# Altium footprint library Connector.PcbLib: 23 footprints (part 2 of 2)
Each footprint in its own frame and in the unit in brackets; x right, y up, seen from the top. Pads: shape width x height; smd on the part's side, far side on the other; paste and mask are expansions set on the pad; w line width, h text height; cw(c..) or ccw(c..) is an arc to the next point about the centre after c.
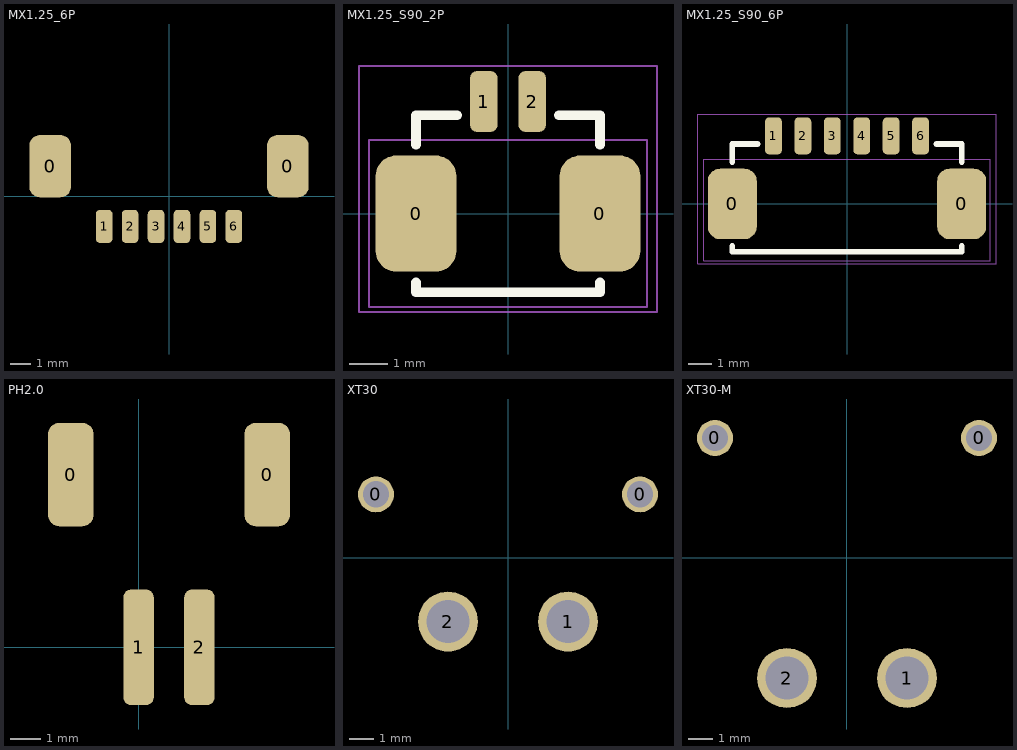
[diagram p1: the footprints below, top view; thin cyan lines are the x and y axes]

## MX1.25_6P [mm]
pads (8):
  rrect50% 2x3 smd: 0(-5.725,1.45) 0(5.725,1.45)
  rrect50% 0.8x1.6 smd: 1(-3.125,-1.45) 2(-1.875,-1.45) 3(-0.625,-1.45) 4(0.625,-1.45) 5(1.875,-1.45) 6(3.125,-1.45)

## MX1.25_S90_2P [mil]
pads (4):
  rrect50% 82x118 smd: 0(-93.58,0) 0(93.58,0)
  rrect50% 28x62 smd: 1(-24.61,114) 2(24.61,114)
Top Overlay:
  lines w10: -93.58,-70 -93.58,-80 93.58,-80 93.58,-70 ; -93.58,70 -93.58,100 -51.58,100 ; 51.58,100 93.58,100 93.58,70
Mechanical 13:
  lines w2: -141.58,-95 141.58,-95 141.58,75 -141.58,75 -141.58,-95
T-Component:
  lines w2: -151.58,-100 151.58,-100 151.58,150 -151.58,150 -151.58,-100
  text ".Designator" at -90,-25 h100
3D body "47641.stp": height 98.43, standoff -23.62, extent -146.65,-128.78 146.65,135

## MX1.25_S90_6P [mil]
pads (8):
  rrect50% 82x118 smd: 0(-192,0) 0(192,0)
  rrect50% 28x62 smd: 1(-123.03,114) 2(-73.82,114) 3(-24.61,114) 4(24.61,114) 5(73.82,114) 6(123.03,114)
Top Overlay:
  lines w10: -192,-70 -192,-80 192,-80 192,-70 ; -192,70 -192,100 -150,100 ; 150,100 192,100 192,70
Mechanical 13:
  lines w2: -240,-95 240,-95 240,75 -240,75 -240,-95
T-Component:
  lines w2: -250,-100 250,-100 250,150 -250,150 -250,-100
  text ".Designator" at -90,-5 h100
3D body "47654.stp": height 98.43, standoff -15.75, extent -245.08,-130 245.08,133.78

## PH2.0 [mm]
pads (4):
  rrect50% 1.5x3.4 smd paste+0 mask+0.102: 0(-2.225,5.675) 0(4.225,5.675)
  rrect50% 1x3.8 smd paste+0 mask+0.102: 1(0,0) 2(2,0)
3D body "User Library-S2B-PH-SM4-TB.step": height 5.5, standoff -0.1, extent -2.965,-1.592 4.935,7.008

## XT30 [mm]
pads (4):
  round 1.5 hole 1.1: 0(-5.5,2.65) 0(5.5,2.65)
  round 2.5 hole 1.8: 1(2.5,-2.65) 2(-2.5,-2.65)
3D body "User Library-XT30PW-F.STEP": height 5, standoff -2, extent -6.65,-3.55 6.65,11.35

## XT30-M [mm]
pads (4):
  round 1.5 hole 1.1: 0(-5.5,5) 0(5.5,5)
  round 2.5 hole 1.8: 1(2.5,-5) 2(-2.5,-5)
3D body "User Library-XT30PW-M.step": height 0, standoff -7, extent -6.662,-5.972 6.638,7.978

## ZBUF_3DMODEL [mm]
3D body "47631.stp": height 2.5, standoff -0.6, extent -5.248,8.133 12.202,14.833
3D body "47659.stp": height 2.5, standoff -0.6, extent -3.284,-0.477 11.666,6.223
3D body "47641.stp": height 2.5, standoff -0.6, extent 3.895,-8.763 11.345,-2.063